# Altium footprint library PcbLib.PcbLib: 6 footprints
Each footprint in its own frame and in the unit in brackets; x right, y up, seen from the top. Pads: shape width x height; smd on the part's side, far side on the other; paste and mask are expansions set on the pad; w line width, h text height; cw(c..) or ccw(c..) is an arc to the next point about the centre after c.
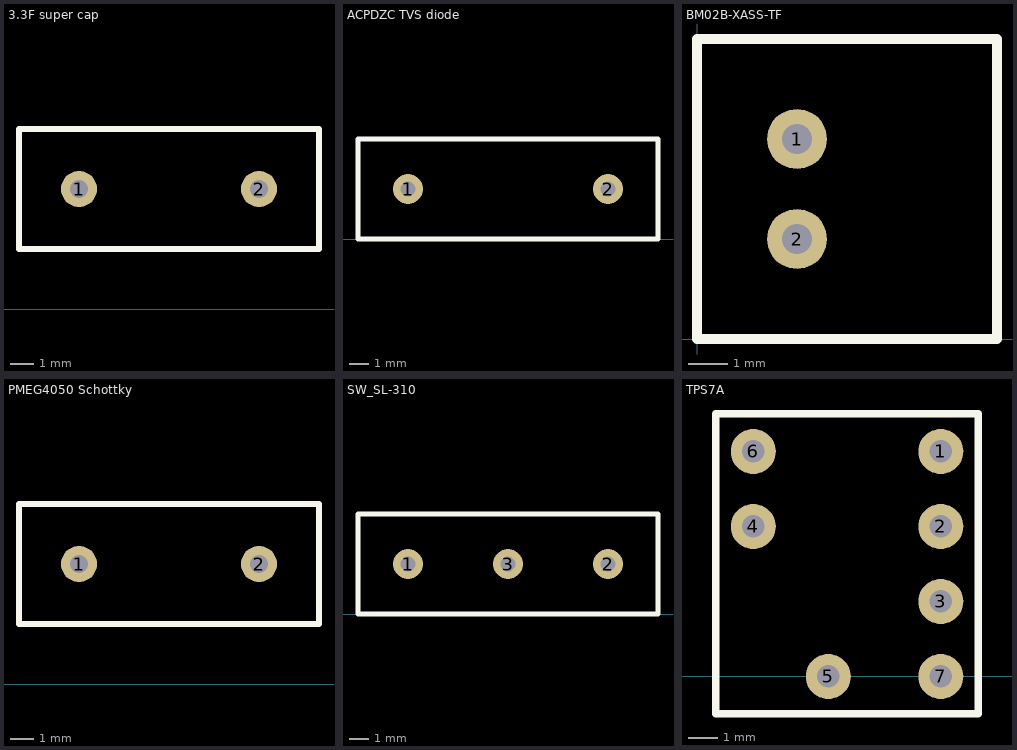
[diagram p0: the footprints below, top view; thin cyan lines are the x and y axes]

## 3.3F super cap [mil]
pads (2):
  round 60 hole 30: 1(200,200) 2(500,200)
Top Overlay:
  lines w10: 100,100 100,300 600,300 600,100 100,100

## ACPDZC TVS diode [mil]
pads (2):
  round 60 hole 30: 1(200,100) 2(600,100)
Top Overlay:
  lines w10: 100,0 100,200 600,200 700,200 700,0 100,0

## BM02B-XASS-TF [mil]
pads (2):
  round 60 hole 30: 1(100,200) 2(100,100)
Top Overlay:
  lines w10: 0,0 0,300 300,300 300,0 0,0

## PMEG4050 Schottky [mil]
pads (2):
  round 60 hole 30: 1(200,200) 2(500,200)
Top Overlay:
  lines w10: 100,100 600,100 600,300 100,300 100,100

## SW_SL-310 [mil]
pads (3):
  round 60 hole 30: 1(200,100) 2(600,100) 3(400,100)
Top Overlay:
  lines w10: 100,0 100,200 700,200 700,0 100,0

## TPS7A [mil]
pads (7):
  round 60 hole 30: 1(400,300) 2(400,200) 3(400,100) 4(150,200) 5(250,0) 6(150,300) 7(400,0)
Top Overlay:
  lines w10: 100,-50 100,350 450,350 450,-50 100,-50